# EAGLE library part TPS63060 (library X893)
TPS6306x <http://www.ti.com/lit/ds/symlink/tps63061.pdf>
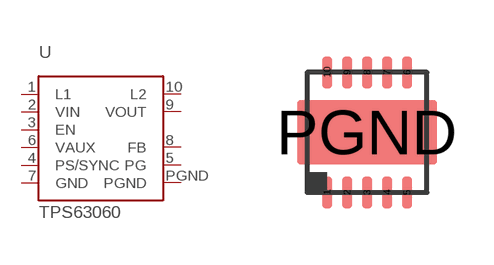
[diagram p234: symbol with the pads of WSON-10; footprint WSON-10]

Designator prefix U

## TPS63060  [WSON-10]
1  L1
2  VIN
3  EN
4  PS/SYNC
5  PG
6  VAUX
7  GND
8  FB
9  VOUT
10  L2
PGND  PGND

## Footprint WSON-10 (pad centres in mm)
smd 0.25 x 0.8: 1 -1,-1.5; 2 -0.5,-1.5; 3 0,-1.5; 4 0.5,-1.5; 5 1,-1.5; 6 1,1.5; 7 0.5,1.5; 8 0,1.5; 9 -0.5,1.5; 10 -1,1.5
smd 3.5 x 1.6: PGND 0,0